# EAGLE library part XBEE-PRO (library 000_CustomPartsMaster)
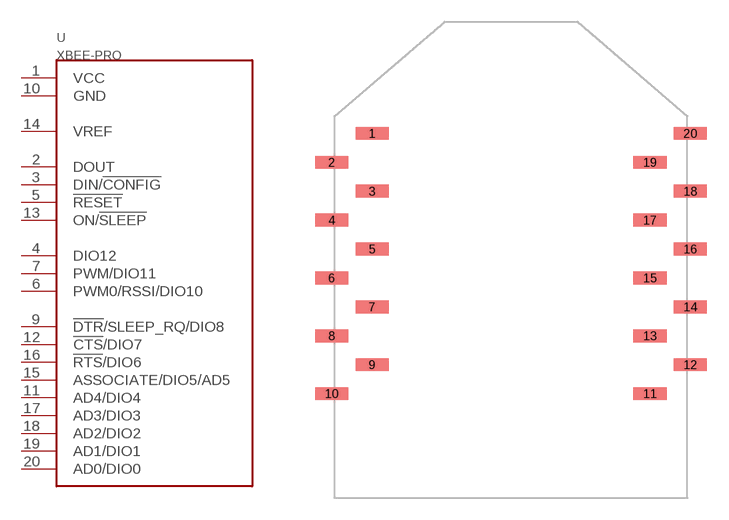
[diagram p20: symbol with the pads of XBEE-PRO; footprint XBEE-PRO]

Designator prefix -

## XBEE-PRO  [XBEE-PRO]
1  VCC
2  DOUT
3  DIN/!CONFIG
4  DIO12
5  !RESET
6  PWM0/RSSI/DIO10
7  PWM/DIO11
9  !DTR!/SLEEP_RQ/DIO8
10  GND
11  AD4/DIO4
12  !CTS!/DIO7
13  ON/!SLEEP
14  VREF
15  ASSOCIATE/DIO5/AD5
16  !RTS!/DIO6
17  AD3/DIO3
18  AD2/DIO2
19  AD1/DIO1
20  AD0/DIO0

## Footprint XBEE-PRO (pad centres in mm)
smd 2.29 x 0.89: 1 1.395,0; 2 -1.395,-2; 3 1.395,-4; 4 -1.395,-6; 5 1.395,-8; 6 -1.395,-10; 7 1.395,-12; 8 -1.395,-14; 9 1.395,-16; 10 -1.395,-18; 11 20.605,-18; 12 23.395,-16; 13 20.605,-14; 14 23.395,-12; 15 20.605,-10; 16 23.395,-8; 17 20.605,-6; 18 23.395,-4; 19 20.605,-2; 20 23.395,0